# EAGLE library part 61301821821 (library Board_to_Board_Connectors_rev15d)
WR-PHD 2.54mm Dual Socket Header, 18 Pins =>Code : Con_BTB_SHD_2.54_2_61301821821 <http://katalog.we-online.de/media/images/eican/Con_BTB_SHD_2.54_2_6130xx21821_pf2.jpg> Details see: http://katalog.we-online.de/en/em/613_0xx_218_21 Created 2014-05-29, Karrer Zheng 2014 (C) Würth Elektronik
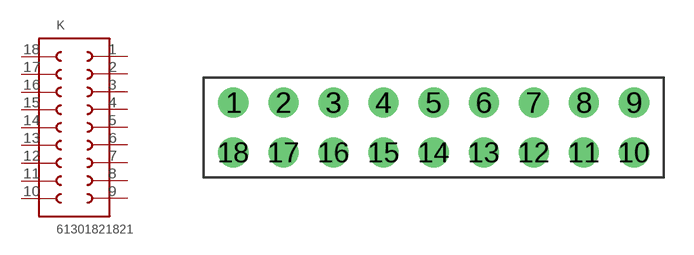
[diagram p115: symbol with the pads of 61301821821; footprint 61301821821]

Designator prefix K

## 61301821821  [61301821821]
1  1  pas
2  2  pas
3  3  pas
4  4  pas
5  5  pas
6  6  pas
7  7  pas
8  8  pas
9  9  pas
10  10  pas
11  11  pas
12  12  pas
13  13  pas
14  14  pas
15  15  pas
16  16  pas
17  17  pas
18  18  pas

## Footprint 61301821821 (pad centres in mm)
WR-PHD 2.54mm Dual Socket Header, 18 Pins
drill 1.02: 1 -10.16,1.27; 2 -7.62,1.27; 3 -5.08,1.27; 4 -2.54,1.27; 5 0,1.27; 6 2.54,1.27; 7 5.08,1.27; 8 7.62,1.27; 9 10.16,1.27; 10 10.16,-1.27; 11 7.62,-1.27; 12 5.08,-1.27; 13 2.54,-1.27; 14 0,-1.27; 15 -2.54,-1.27; 16 -5.08,-1.27; 17 -7.62,-1.27; 18 -10.16,-1.27